# EAGLE library part B8B-XH (library con-JST_XH)
JST XH series header 2.50mm pitch disconnectable crimp style connectors, vertical (side entry type), 8 pins
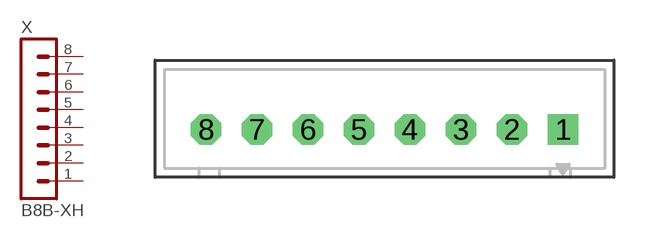
[diagram p2: symbol with the pads of B8B-XH-A; footprint B8B-XH-A]

Designator prefix X

## B8B-XH-A  [B8B-XH-A]
1  1  pas
2  2  pas
3  3  pas
4  4  pas
5  5  pas
6  6  pas
7  7  pas
8  8  pas

## B8B-XH-2  [B8B-XH-A]
Pads as for B8B-XH-A

## Footprint B8B-XH-A (pad centres in mm)
JST XH series header 2.50mm pitch disconnectable crimp style connectors, vertical (top entry type), 8 pins
drill 0.9 pad 1.5 square: 1 8.75,0
drill 0.9 pad 1.5 octagon: 2 6.25,0; 3 3.75,0; 4 1.25,0; 5 -1.25,0; 6 -3.75,0; 7 -6.25,0; 8 -8.75,0